# EAGLE library part 2199230-2 (library TE-E-KEY)
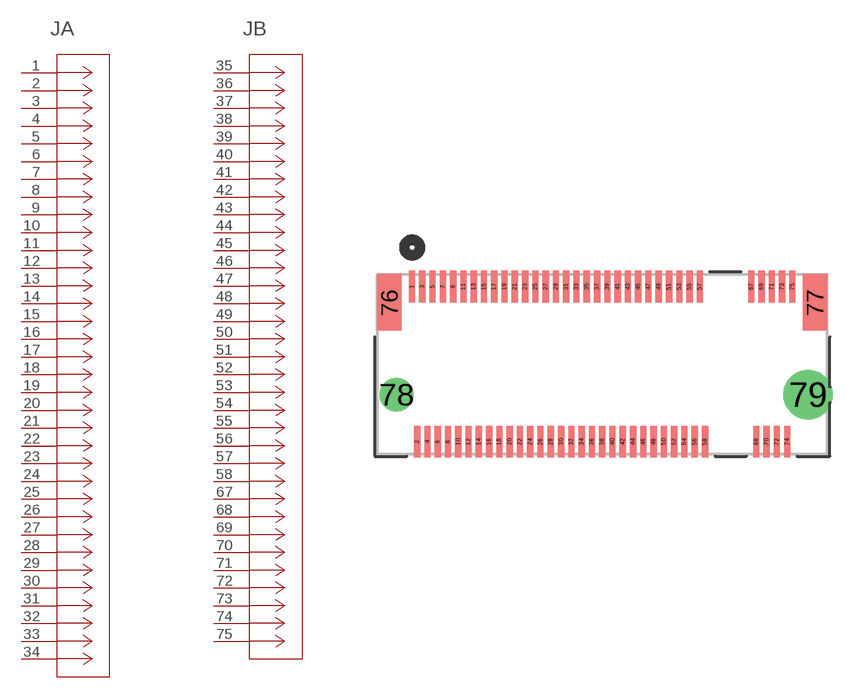
[diagram p0: symbol with the pads of CONN67_2199230_TEC; footprint CONN67_2199230_TEC]

Designator prefix J; gates A=CONN67_2199230_TEC B=CONN67_2199230_TEC_4

## 2199230-2 (BUILT_BY: EMA_Justin; COPYRIGHT: Copyright (C) 2018 Accelerated Designs. All rights reserved; DATASHEET: https://www.te.com/commerce/DocumentDelivery/DDEController?Action=showdoc&DocId=Customer+Drawing%7F2199230%7FB3%7Fpdf%7FEnglish%7FENG_CD_2199230_B3.pdf%7F1-2199230-6; MANUFACTURER_PART_NUMBER: 2199230-2; SOURCELIBRARY: TE_Connectivity-2018-03-16; VENDOR: TE Connectivity)  [CONN67_2199230_TEC]
1  A:1  pas
2  A:2  pas
3  A:3  pas
4  A:4  pas
5  A:5  pas
6  A:6  pas
7  A:7  pas
8  A:8  pas
9  A:9  pas
10  A:10  pas
11  A:11  pas
12  A:12  pas
13  A:13  pas
14  A:14  pas
15  A:15  pas
16  A:16  pas
17  A:17  pas
18  A:18  pas
19  A:19  pas
20  A:20  pas
21  A:21  pas
22  A:22  pas
23  A:23  pas
24  A:24  pas
25  A:25  pas
26  A:26  pas
27  A:27  pas
28  A:28  pas
29  A:29  pas
30  A:30  pas
31  A:31  pas
32  A:32  pas
33  A:33  pas
34  A:34  pas
35  B:35  pas
36  B:36  pas
37  B:37  pas
38  B:38  pas
39  B:39  pas
40  B:40  pas
41  B:41  pas
42  B:42  pas
43  B:43  pas
44  B:44  pas
45  B:45  pas
46  B:46  pas
47  B:47  pas
48  B:48  pas
49  B:49  pas
50  B:50  pas
51  B:51  pas
52  B:52  pas
53  B:53  pas
54  B:54  pas
55  B:55  pas
56  B:56  pas
57  B:57  pas
58  B:58  pas
67  B:67  pas
68  B:68  pas
69  B:69  pas
70  B:70  pas
71  B:71  pas
72  B:72  pas
73  B:73  pas
74  B:74  pas
75  B:75  pas

## Footprint CONN67_2199230_TEC (pad centres in mm)
smd 0.305 x 1.549: 1 -18.5,7.55; 2 -18.25,0; 3 -18,7.55; 4 -17.75,0; 5 -17.5,7.55; 6 -17.25,0; 7 -17,7.55; 8 -16.75,0; 9 -16.5,7.55; 10 -16.25,0; 11 -16,7.55; 12 -15.75,0; 13 -15.5,7.55; 14 -15.25,0; 15 -15,7.55; 16 -14.75,0; 17 -14.5,7.55; 18 -14.25,0; 19 -14,7.55; 20 -13.75,0; 21 -13.5,7.55; 22 -13.25,0; 23 -13,7.55; 24 -12.75,0; 25 -12.5,7.55; 26 -12.25,0; 27 -12,7.55; 28 -11.75,0; 29 -11.5,7.55; 30 -11.25,0; 31 -11,7.55; 32 -10.75,0; 33 -10.5,7.55; 34 -10.25,0; 35 -10,7.55; 36 -9.75,0; 37 -9.5,7.55; 38 -9.25,0; 39 -9,7.55; 40 -8.75,0; 41 -8.5,7.55; 42 -8.25,0; 43 -8,7.55; 44 -7.75,0; 45 -7.5,7.55; 46 -7.25,0; 47 -7,7.55; 48 -6.75,0; 49 -6.5,7.55; 50 -6.25,0; 51 -6,7.55; 52 -5.75,0; 53 -5.5,7.55; 54 -5.25,0; 55 -5,7.55; 56 -4.75,0; 57 -4.5,7.55; 58 -4.25,0; 67 -2,7.55; 68 -1.75,0; 69 -1.5,7.55; 70 -1.25,0; 71 -1,7.55; 72 -0.75,0; 73 -0.5,7.55; 74 -0.25,0; 75 0,7.55
smd 1.194 x 2.743: 76 -19.6,6.775; 77 1.1,6.775
drill 1.092 pad 1.092: 78 -19.253,2.286
drill 1.6 pad 1.6: 79 0.762,2.286